# Altium footprint library DIP787W53P279L2176H508Q16N.PcbLib: 1 footprints
Each footprint in its own frame and in the unit in brackets; x right, y up, seen from the top. Pads: shape width x height; smd on the part's side, far side on the other; paste and mask are expansions set on the pad; w line width, h text height; cw(c..) or ccw(c..) is an arc to the next point about the centre after c.
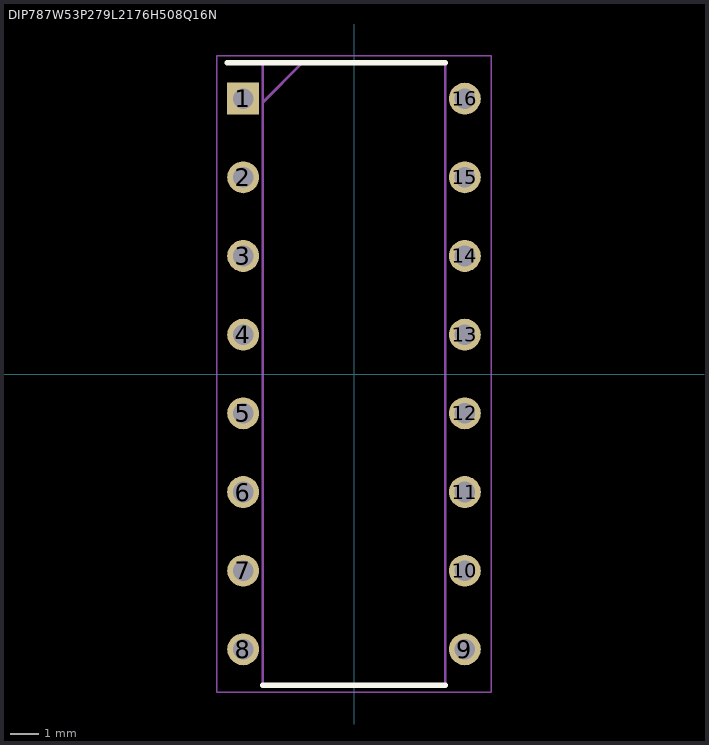
[diagram p0: the footprint, top view; thin cyan lines are the x and y axes]

## DIP787W53P279L2176H508Q16N [mil]
pads (16):
  rect 44.61x44.61 / inner round 44.61 / far side rect 44.61x44.61 hole 28.86: 1(-155,385)
  round 44.61 hole 28.86: 2(-155,275) 3(-155,165) 4(-155,55) 5(-155,-55) 6(-155,-165) 7(-155,-275) 8(-155,-385) 9(155,-385) 10(155,-275) 11(155,-165) 12(155,-55) 13(155,55) 14(155,165) 15(155,275) 16(155,385)
Top Overlay:
  lines w7.87: -177.32,435.04 127.48,435.04 ; -127.48,-435.04 127.48,-435.04
Mechanical 15:
  lines w3.94: -127.48,380.04 -72.52,435.04 ; -127.48,-435.04 127.48,-435.04 127.48,435.04 -127.48,435.04 -127.48,-435.04
Mechanical 20:
  lines w1.97: -192.13,-444.88 192.13,-444.88 192.13,444.88 -192.13,444.88 -192.13,-444.88